# Altium footprint library SOD323F.PcbLib: 1 footprints
Each footprint in its own frame and in the unit in brackets; x right, y up, seen from the top. Pads: shape width x height; smd on the part's side, far side on the other; paste and mask are expansions set on the pad; w line width, h text height; cw(c..) or ccw(c..) is an arc to the next point about the centre after c.
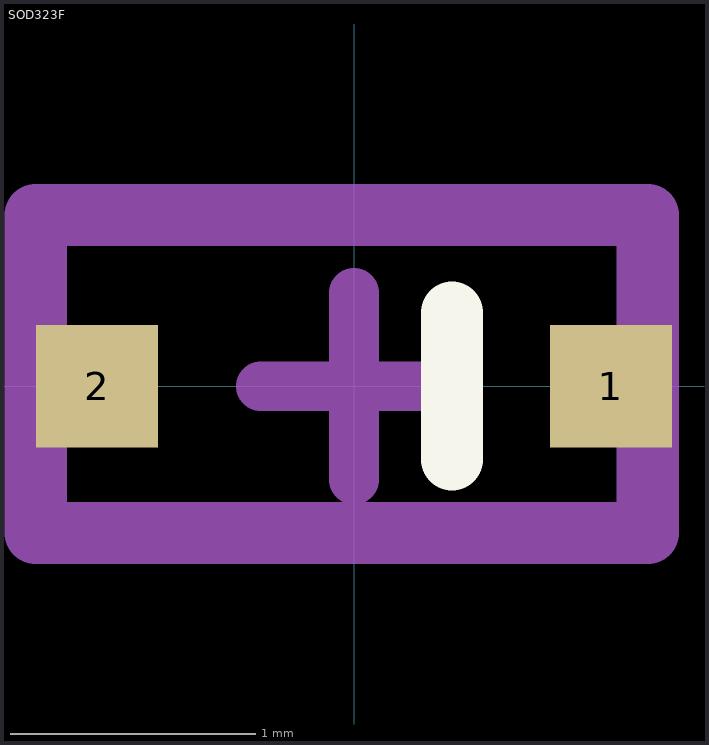
[diagram p0: the footprint, top view; thin cyan lines are the x and y axes]

## SOD323F [mm]
pads (2):
  rect 0.5x0.5 smd mask+0.051: 1(1.05,0) 2(-1.05,0)
Top Overlay:
  lines w0.254: 0.4,-0.3 0.4,0.3
Mechanical 13:
  lines w0.254: -1.3,-0.6 1.2,-0.6 1.2,0.7 -1.3,0.7 -1.3,-0.6
Mechanical 15:
  lines w0.203: -0.381,0 0,0 ; 0,-0.381 0,0 ; 0,0.381 0,0 ; 0.381,0 0,0
3D body "BAS21J_115.step": height 0.8, standoff 0, extent -1.25,-0.675 1.25,0.675